# Altium schematic symbol library Schlib.SchLib: 11 symbols
Pins are listed as number, name and electrical type; pins without a type are passive.

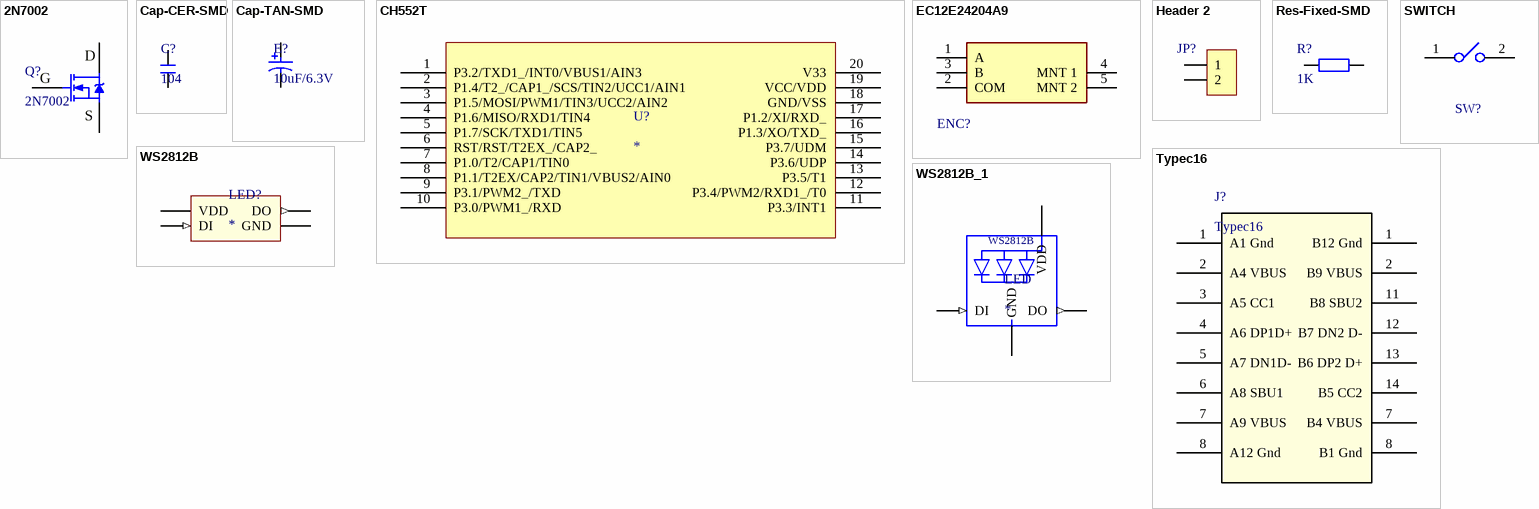
[diagram p0: symbols 2N7002 to WS2812B_1]

## 2N7002
designator Q?
N沟道场效应管; 版权归属: 源创客; BOM名称: N沟道场效应管; 学习资源: www.ooocke.com
footprint SOT23-3N (3x1.3x1mm(长宽高))
footprint SOT23-3L (3x1.3x1mm(长宽高))
footprint SOT23-3M (3x1.3x1mm(长宽高))
pins: 1 G, 2 S, 3 D

## Cap-CER-SMD
designator C?, comment 104
瓷片电容-贴片
footprint C 0201 (无极性贴片电容)
footprint C 0402 (无极性贴片电容)
footprint C 0603 (无极性贴片电容)
footprint C 0805 (无极性贴片电容)
footprint C 1206 (无极性贴片电容)
footprint C 1210 (无极性贴片电容)
footprint C 1808 (无极性贴片电容)
footprint C 1812 (无极性贴片电容)
footprint C 1825 (无极性贴片电容)
footprint C 2225 (无极性贴片电容)
pins: 1, 2

## Cap-TAN-SMD
designator E?, comment 10uF/6.3V
钽电解电容-贴片
footprint CD A(3216) (长3.2mm，宽1.6mm，厚1.6mm)
footprint CD B(3528) (长3.5mm，宽2.8mm，厚1.9mm)
footprint CD C(6032) (长6.0mm，宽3.2mm，厚2.5mm)
footprint CD D(7343) (长7.3mm，宽4.3mm，厚2.8mm)
footprint CD E(7343H) (长7.3mm，宽4.3mm，厚4.0mm)
footprint CD S(2012) (长2.0mm，宽1.25mm，厚1.2mm)
pins: A, K

## CH552T
designator U?
footprint TSSOP20_L (6.5*6.4*1（长宽高）)
footprint TSSOP20_N (6.5*6.4*1（长宽高）)
pins: 1 P3.2/TXD1_/INT0/VBUS1/AIN3, 2 P1.4/T2_/CAP1_/SCS/TIN2/UCC1/AIN1, 3 P1.5/MOSI/PWM1/TIN3/UCC2/AIN2, 4 P1.6/MISO/RXD1/TIN4, 5 P1.7/SCK/TXD1/TIN5, 6 RST/RST/T2EX_/CAP2_, 7 P1.0/T2/CAP1/TIN0, 8 P1.1/T2EX/CAP2/TIN1/VBUS2/AIN0, 9 P3.1/PWM2_/TXD, 10 P3.0/PWM1_/RXD, 11 P3.3/INT1, 12 P3.4/PWM2/RXD1_/T0, 13 P3.5/T1, 14 P3.6/UDP, 15 P3.7/UDM, 16 P1.3/XO/TXD_, 17 P1.2/XI/RXD_, 18 GND/VSS, 19 VCC/VDD, 20 V33

## EC12E24204A9
designator ENC?  (value not drawn)
footprint ALPS_EC12E24204A9_MFG
pins: 1 A, 2 COM, 3 B, 4 MNT 1, 5 MNT 2

## Header 2
designator JP?, comment HDR-1X2  (value not drawn)
2P接插件; 版权归属: 源创客; BOM名称: 2P接插件; 学习资源: www.ooocke.com
footprint HDR-1X2 (排针，2脚)
footprint HDR-1X2_H (弯脚排针，2脚)
footprint HDR-1X2_M (排母，2脚)
footprint HDR-1X2_Y (圆孔排母，2脚)
footprint XH2.54-2P (接插件，2P)
footprint KF2510-2P (接插件/2A)
footprint VH3.96-2P (接插件，25V/5A)
footprint XH2.54-2P_H (接插件，2P)
footprint VH3.96-2P_H (接插件，25V/5A)
footprint KF301-2P (可拼接端子/6A)
footprint KF2EDGK-2P (直列插拔式端子)
footprint PH2.0-2P (接插件/1A)
footprint PH2.0-2P_H (接插件/1A)
footprint KF2EDGK-2P_H (弯角插拔式端子)
footprint JST-1.25-53398-0271
pins: 1, 2

## Res-Fixed-SMD
designator R?, comment 1K
固定电阻器-贴片
footprint Res-SMD-0201 (1/20W贴片电阻)
footprint Res-SMD-0402 (1/16W贴片电阻)
footprint Res-SMD-0603 (1/10W贴片电阻)
footprint Res-SMD-0805 (1/8W贴片电阻)
footprint Res-SMD-1206 (1/4W贴片电阻)
footprint Res-SMD-1210 (1/3W贴片电阻)
footprint Res-SMD-1812 (1/2W贴片电阻)
footprint Res-SMD-2010 (3/4W贴片电阻)
footprint Res-SMD-2512 (1W贴片电阻)
pins: 1, 2

## SWITCH
designator SW?
SWITCH Pushbutton Switch SPST-NO Keyswitch Through Hole; Manufacturer: Cherry; Category 8Ce341E9Bf4C5724: Switches; size_length: 15.6 mm; contact_current_rating: 10 mA; Category Db391633E8F300Fe: Industrial Control; Category 6A0Ba70159B8B1Cc: Keylock; contact_plating: Gold; Category A9A064Aa9A0A7267: Tactile / Jog; contacts_type: SPST; Num Pins: 2; Category 6E88A3825D3Cb54F: Uncategorized; helpURL: https://upverter.com/upn/revision/2ca27a2fbe391082/; ComponentLink2Description: Datasheet; Temperature: -10 to +70; Package: SW_15MM6_15_6; Supplier 2: Mouser; Price: 0.648391469733; Supplier 1: Digi-Key; ComponentLink1URL: https://upverter.com/upn/revision/2ca27a2fbe391082/; Supplier Part Number 2: 540-MX1A-11NW; Supplier Part Number 1: CH160-ND; ComponentLink1Description: Upverter; ComponentLink2URL: https://upverter.com/datasheet/a174b925b05052267a652262a41f429ea7a87855.pdf; RoHS: TRUE; Mouser Part Number: 540-MX1A-11NW; orientation: Vertical; Temperature Range High: +70; Octopart Part Number: MX1A-11NW; Digikey Description: SWITCH Pushbutton Switch SPST-NO Keyswitch Through Hole; Digikey Part Number: CH160-ND; Lead Free: yes; Temperature Range Low: -10; Category 2Bfae6F01857F03D: Pushbutton; Mounting Type: lug; size_width: 15.6 mm
footprint Cherry_MX
pins: 1, 2

## Typec16
designator J?
footprint typec 16p
pins: 1 A1 Gnd, 1 B12 Gnd, 2 A4 VBUS, 2 B9 VBUS, 3 A5 CC1, 4 A6 DP1D+, 5 A7 DN1D-, 6 A8 SBU1, 7 A9 VBUS, 7 B4 VBUS, 8 A12 Gnd, 8 B1 Gnd, 11 B8 SBU2, 12 B7 DN2 D-, 13 B6 DP2 D+, 14 B5 CC2

## WS2812B
designator LED?
Raspberry Pi HAT _40 pin_ Wheeled Robotics Kit; MP: WS2812B; MF: SparkFun Electronics; Availability: Unavailable; SnapEDA_Link: https://www.snapeda.com/parts/WS2812B/Worldsemi/view-part/1038297/?ref=snap; Price: None; Value: *; Package: None
footprint WS2812B
footprint WS2812_2020 - sink
footprint WS2812_2020
pins: 1 VDD (power), 2 DO (out), 3 GND (power), 4 DI (in)

## WS2812B_1
designator LED
Raspberry Pi HAT _40 pin_ Wheeled Robotics Kit; MP: WS2812B; MF: SparkFun Electronics; Availability: Unavailable; SnapEDA_Link: https://www.snapeda.com/parts/WS2812B/Worldsemi/view-part/1038297/?ref=snap; Price: None; Value: *; Package: None
footprint WS2812B
pins: 1-VDD VDD (power), 2-DOUT DO (out), 3-GND GND (power), 4-DIN DI (in)